# EAGLE library part XU06 (library connectors)
Connector 6 pins (separate)
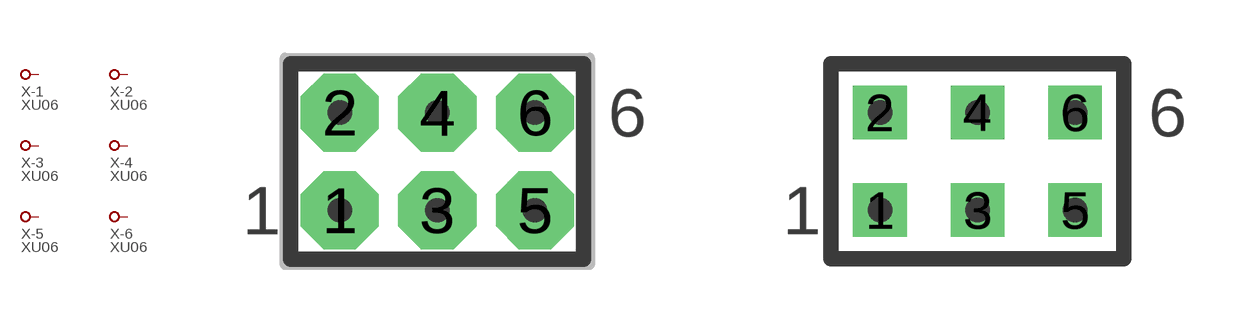
[diagram p57: symbol with the pads of X06N-DIL; footprints X06N-DIL, X06R-DIL]

Designator prefix X; gates -1=XP02 -2=XP02 -3=XP02 -4=XP02 -5=XP02 -6=XP02

## XU06D  [X06N-DIL]
1  -1:1
2  -2:1
3  -3:1
4  -4:1
5  -5:1
6  -6:1

## XU06DR  [X06R-DIL]
Pads as for X06N-DIL

## XU06I  [X06N-IDC]
Pads as for X06N-DIL

## XU06IR  [X06R-IDC]
Pads as for X06N-DIL

## XU06L  [X06L-SIL]
Pads as for X06N-DIL

## XU06N  [X06N-SIL]
Pads as for X06N-DIL

## XU06R  [X06R-SIL]
Pads as for X06N-DIL

## XU06  [X06N-IDC]
Pads as for X06N-DIL

## XU06IC  [X06N-RIBBON1]
Pads as for X06N-DIL

## XU06ICR  [X06R-RIBBON1]
Pads as for X06N-DIL

## Footprint X06N-DIL (pad centres in mm)
Connector 6 pins, DIL
drill 0.889 pad 2.032 octagon: 1 -2.54,-1.27; 2 -2.54,1.27; 3 0,-1.27; 4 0,1.27; 5 2.54,-1.27; 6 2.54,1.27

## Footprint X06R-DIL (pad centres in mm)
Connector 6 pins, DIL, reduced pads
drill 0.889 pad 1.397 square: 1 -2.54,-1.27; 2 -2.54,1.27; 3 0,-1.27; 4 0,1.27; 5 2.54,-1.27; 6 2.54,1.27

## Footprint X06N-IDC (pad centres in mm)
Connector 6 pins, IDC
drill 0.889 pad 2.032 octagon: 1 -2.54,-1.27; 2 -2.54,1.27; 3 0,-1.27; 4 0,1.27; 5 2.54,-1.27; 6 2.54,1.27

## Footprint X06R-IDC (pad centres in mm)
Connector 6 pins, IDC, reduced pads
drill 0.889 pad 1.397 square: 1 -2.54,-1.27; 2 -2.54,1.27; 3 0,-1.27; 4 0,1.27; 5 2.54,-1.27; 6 2.54,1.27

## Footprint X06L-SIL (pad centres in mm)
Connector 6 pins, SIL, long pads
drill 0.889 pad 1.397 long: 1 -6.35,0; 2 -3.81,0; 3 -1.27,0; 4 1.27,0; 5 3.81,0; 6 6.35,0

## Footprint X06N-SIL (pad centres in mm)
Connector 6 pins, SIL
drill 0.889 pad 2.032 octagon: 1 -6.35,0; 2 -3.81,0; 3 -1.27,0; 4 1.27,0; 5 3.81,0; 6 6.35,0

## Footprint X06R-SIL (pad centres in mm)
Connector 6 pins, SIL, reduced pads
drill 0.889 pad 1.397 square: 1 -6.35,0; 2 -3.81,0; 3 -1.27,0; 4 1.27,0; 5 3.81,0; 6 6.35,0

## Footprint X06N-RIBBON1 (pad centres in mm)
Connector 6 pins, IDC for ribbon cables
drill 0.889 pad 2.032 octagon: 1 -2.54,-1.27; 2 -2.54,1.27; 3 0,-1.27; 4 0,1.27; 5 2.54,-1.27; 6 2.54,1.27

## Footprint X06R-RIBBON1 (pad centres in mm)
Connector 6 pins, IDC for ribbon cables, reduced pads
drill 0.889 pad 1.397 square: 1 -2.54,-1.27; 2 -2.54,1.27; 3 0,-1.27; 4 0,1.27; 5 2.54,-1.27; 6 2.54,1.27